# Altium footprint library JST BM02B-SRSS-TB.PCBLIB: 1 footprints
Each footprint in its own frame and in the unit in brackets; x right, y up, seen from the top. Pads: shape width x height; smd on the part's side, far side on the other; paste and mask are expansions set on the pad; w line width, h text height; cw(c..) or ccw(c..) is an arc to the next point about the centre after c.
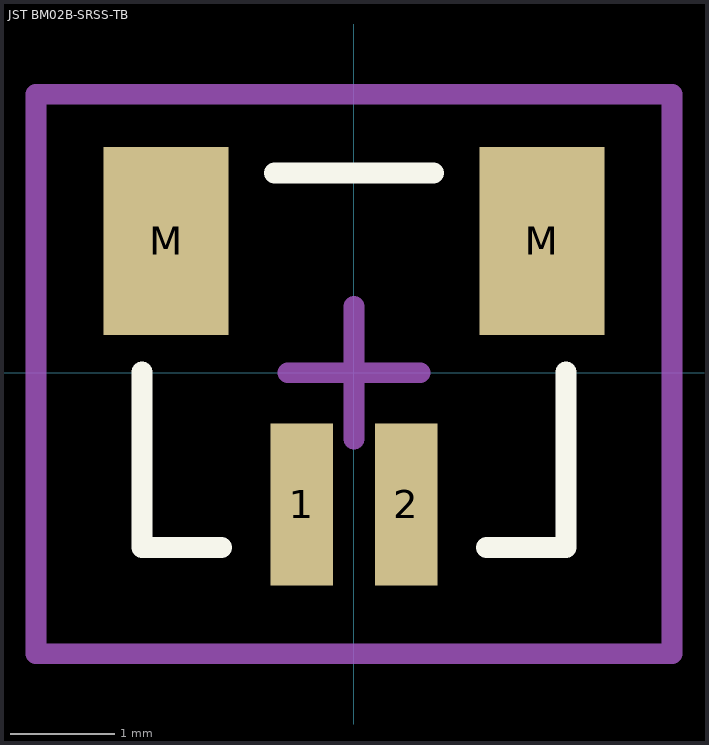
[diagram p0: the footprint, top view; thin cyan lines are the x and y axes]

## JST BM02B-SRSS-TB [mm] "1.0mm pitch/Disconnectable Crimp style connector"
height 2.95
pads (4):
  rect 0.6x1.55 smd: 1(-0.5,-1.262) 2(0.5,-1.262)
  rect 1.2x1.8 smd: M(-1.8,1.262) M(1.8,1.262)
Top Overlay:
  lines w0.2: -2.032,0.008 -2.032,-1.676 -1.27,-1.676 ; -0.762,1.913 0.762,1.913 ; 1.27,-1.676 2.032,-1.676 2.032,0.008
Mechanical 15:
  lines w0.2: -0.635,0 0.635,0 ; 0,-0.635 0,0.635 ; -3.048,-2.692 -3.048,2.667 3.048,2.667 3.048,-2.692 -3.048,-2.692
3D body "JST BM02B-SRSS-TB.STEP": height 4.32, standoff 0, extent -2,-1.687 2,1.913